# Altium schematic symbol library Транзисторы_демо.SchLib: 1 symbol
Pins are listed as number, name and electrical type; pins without a type are passive.

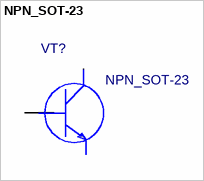
[diagram p0: symbol NPN_SOT-23]

## NPN_SOT-23
designator VT?
Value: *
footprint SOT-23
pins: 1 B, 2 K, 3 E